# Altium integrated library WE-HCF SMD High Current Inductor.IntLib: 22 symbols
Pins are listed as number, name and electrical type; pins without a type are passive.

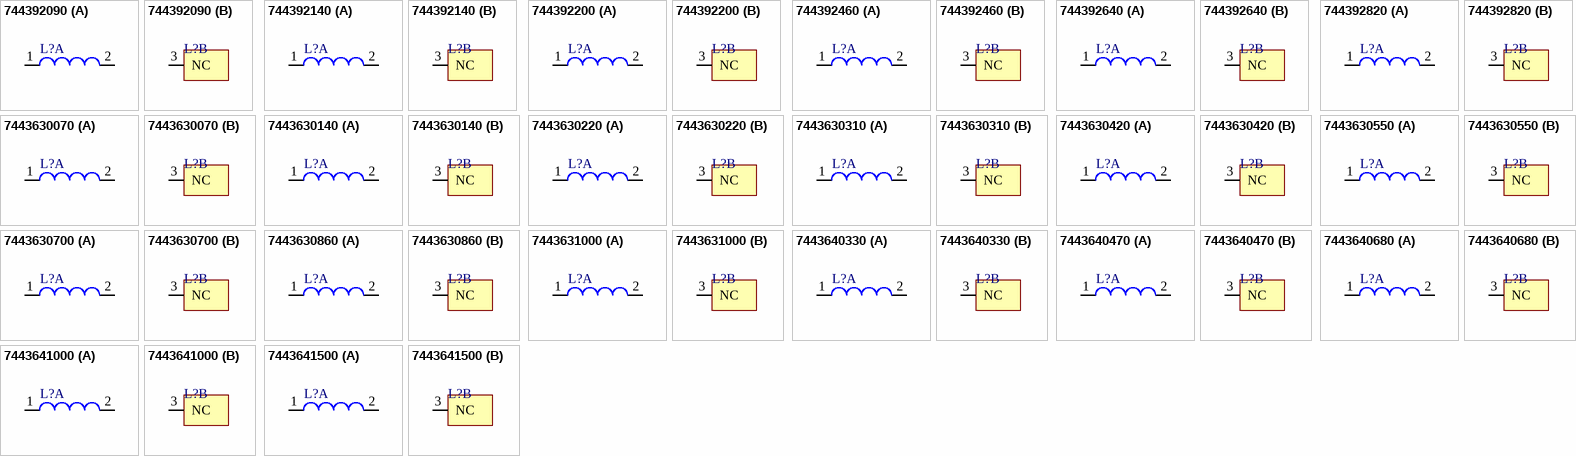
[diagram p0: symbols 744392090 to 7443641500]

## 744392090
designator L?
SMD Flat Wire Ferrite Inductor WE-HCF Hight Current, L=0.90 µH; PartNumber: 744392090; Inductance: 0.90 µH; PackageReference: WE-HCF 1253; ComponentLink1Description: Manufacturer URL; ComponentLink1URL: http://www.we-online.com
footprint WE-HCF 1253
part A pins: 1, 2
part B pins: 3 NC

## 744392140
designator L?
SMD Flat Wire Ferrite Inductor WE-HCF Hight Current, L=1.40 µH; PartNumber: 744392140; Inductance: 1.40 µH; PackageReference: WE-HCF 1253; ComponentLink1Description: Manufacturer URL; ComponentLink1URL: http://www.we-online.com
footprint WE-HCF 1253
part A pins: 1, 2
part B pins: 3 NC

## 744392200
designator L?
SMD Flat Wire Ferrite Inductor WE-HCF Hight Current, L=2.00 µH; PartNumber: 744392200; Inductance: 2.00 µH; PackageReference: WE-HCF 1253; ComponentLink1Description: Manufacturer URL; ComponentLink1URL: http://www.we-online.com
footprint WE-HCF 1253
part A pins: 1, 2
part B pins: 3 NC

## 744392460
designator L?
SMD Flat Wire Ferrite Inductor WE-HCF Hight Current, L=4.80 µH; PartNumber: 744392460; Inductance: 4.80 µH; PackageReference: WE-HCF 1253; ComponentLink1Description: Manufacturer URL; ComponentLink1URL: http://www.we-online.com
footprint WE-HCF 1253
part A pins: 1, 2
part B pins: 3 NC

## 744392640
designator L?
SMD Flat Wire Ferrite Inductor WE-HCF Hight Current, L=6.80 µH; PartNumber: 744392640; Inductance: 6.80 µH; PackageReference: WE-HCF 1253; ComponentLink1Description: Manufacturer URL; ComponentLink1URL: http://www.we-online.com
footprint WE-HCF 1253
part A pins: 1, 2
part B pins: 3 NC

## 744392820
designator L?
SMD Flat Wire Ferrite Inductor WE-HCF Hight Current, L=8.60 µH; PartNumber: 744392820; Inductance: 8.60 µH; PackageReference: WE-HCF 1253; ComponentLink1Description: Manufacturer URL; ComponentLink1URL: http://www.we-online.com
footprint WE-HCF 1253
part A pins: 1, 2
part B pins: 3 NC

## 7443630070
designator L?
SMD High Current Inductor WE-HCF, L=0.70 µH; PartNumber: 7443630070; Inductance: 0.70 µH; DatasheetVersion: ver 1, Jul-2009; PackageReference: WE-HCF-2013; PackageDescription: SMD Inductor, 3-Leads, Body 21.5 x 21.0 mm; ComponentLink1Description: Manufacturer URL; ComponentLink1URL: http://www.we-online.com; ComponentLink2Description: Datasheet; ComponentLink2URL: http://www.we-online.de/katalog/media/pdf/7443630070.pdf
footprint WE-HCF-2013 (SMD Inductor, 3-Leads, Body 21.5x21.0x14.0 mm)
part A pins: 1, 2
part B pins: 3 NC

## 7443630140
designator L?
SMD High Current Inductor WE-HCF, L=1.40 µH; PartNumber: 7443630140; Inductance: 1.40 µH; DatasheetVersion: ver 1, Jul-2009; PackageReference: WE-HCF-2013; PackageDescription: SMD Inductor, 3-Leads, Body 21.5 x 21.0 mm; ComponentLink1Description: Manufacturer URL; ComponentLink1URL: http://www.we-online.com; ComponentLink2Description: Datasheet; ComponentLink2URL: http://www.we-online.de/katalog/media/pdf/7443630140.pdf
footprint WE-HCF-2013 (SMD Inductor, 3-Leads, Body 21.5x21.0x14.0 mm)
part A pins: 1, 2
part B pins: 3 NC

## 7443630220
designator L?
SMD High Current Inductor WE-HCF, L=2.20 µH; PartNumber: 7443630220; Inductance: 2.20 µH; DatasheetVersion: ver 1, Jul-2009; PackageReference: WE-HCF-2013; PackageDescription: SMD Inductor, 3-Leads, Body 21.5 x 21.0 mm; ComponentLink1Description: Manufacturer URL; ComponentLink1URL: http://www.we-online.com; ComponentLink2Description: Datasheet; ComponentLink2URL: http://www.we-online.de/katalog/media/pdf/7443630220.pdf
footprint WE-HCF-2013 (SMD Inductor, 3-Leads, Body 21.5x21.0x14.0 mm)
part A pins: 1, 2
part B pins: 3 NC

## 7443630310
designator L?
SMD High Current Inductor WE-HCF, L=3.10 µH; PartNumber: 7443630310; Inductance: 3.10 µH; DatasheetVersion: ver 1, Jul-2009; PackageReference: WE-HCF-2013; PackageDescription: SMD Inductor, 3-Leads, Body 21.5 x 21.0 mm; ComponentLink1Description: Manufacturer URL; ComponentLink1URL: http://www.we-online.com; ComponentLink2Description: Datasheet; ComponentLink2URL: http://www.we-online.de/katalog/media/pdf/7443630310.pdf
footprint WE-HCF-2013 (SMD Inductor, 3-Leads, Body 21.5x21.0x14.0 mm)
part A pins: 1, 2
part B pins: 3 NC

## 7443630420
designator L?
SMD High Current Inductor WE-HCF, L=4.20 µH; PartNumber: 7443630420; Inductance: 4.20 µH; DatasheetVersion: ver 1, Jul-2009; PackageReference: WE-HCF-2013; PackageDescription: SMD Inductor, 3-Leads, Body 21.5 x 21.0 mm; ComponentLink1Description: Manufacturer URL; ComponentLink1URL: http://www.we-online.com; ComponentLink2Description: Datasheet; ComponentLink2URL: http://www.we-online.de/katalog/media/pdf/7443630420.pdf
footprint WE-HCF-2013 (SMD Inductor, 3-Leads, Body 21.5x21.0x14.0 mm)
part A pins: 1, 2
part B pins: 3 NC

## 7443630550
designator L?
SMD High Current Inductor WE-HCF, L=5.50 µH; PartNumber: 7443630550; Inductance: 5.50 µH; DatasheetVersion: ver 1, Jul-2009; PackageReference: WE-HCF-2013; PackageDescription: SMD Inductor, 3-Leads, Body 21.5 x 21.0 mm; ComponentLink1Description: Manufacturer URL; ComponentLink1URL: http://www.we-online.com; ComponentLink2Description: Datasheet; ComponentLink2URL: http://www.we-online.de/katalog/media/pdf/7443630550.pdf
footprint WE-HCF-2013 (SMD Inductor, 3-Leads, Body 21.5x21.0x14.0 mm)
part A pins: 1, 2
part B pins: 3 NC

## 7443630700
designator L?
SMD High Current Inductor WE-HCF, L=7.00 µH; PartNumber: 7443630700; Inductance: 7.00 µH; DatasheetVersion: ver 1, Jul-2009; PackageReference: WE-HCF-2013; PackageDescription: SMD Inductor, 3-Leads, Body 21.5 x 21.0 mm; ComponentLink1Description: Manufacturer URL; ComponentLink1URL: http://www.we-online.com; ComponentLink2Description: Datasheet; ComponentLink2URL: http://www.we-online.de/katalog/media/pdf/7443630700.pdf
footprint WE-HCF-2013 (SMD Inductor, 3-Leads, Body 21.5x21.0x14.0 mm)
part A pins: 1, 2
part B pins: 3 NC

## 7443630860
designator L?
SMD High Current Inductor WE-HCF, L=8.60 µH; PartNumber: 7443630860; Inductance: 8.60 µH; DatasheetVersion: ver 1, Jul-2009; PackageReference: WE-HCF-2013; PackageDescription: SMD Inductor, 3-Leads, Body 21.5 x 21.0 mm; ComponentLink1Description: Manufacturer URL; ComponentLink1URL: http://www.we-online.com; ComponentLink2Description: Datasheet; ComponentLink2URL: http://www.we-online.de/katalog/media/pdf/7443630860.pdf
footprint WE-HCF-2013 (SMD Inductor, 3-Leads, Body 21.5x21.0x14.0 mm)
part A pins: 1, 2
part B pins: 3 NC

## 7443631000
designator L?
SMD High Current Inductor WE-HCF, L=10.0 µH; PartNumber: 7443631000; Inductance: 10.0 µH; DatasheetVersion: ver 1, Jul-2009; PackageReference: WE-HCF-2013; PackageDescription: SMD Inductor, 3-Leads, Body 21.5 x 21.0 mm; ComponentLink1Description: Manufacturer URL; ComponentLink1URL: http://www.we-online.com; ComponentLink2Description: Datasheet; ComponentLink2URL: http://www.we-online.de/katalog/media/pdf/7443631000.pdf
footprint WE-HCF-2013 (SMD Inductor, 3-Leads, Body 21.5x21.0x14.0 mm)
part A pins: 1, 2
part B pins: 3 NC

## 7443640330
designator L?
SMD High Current Inductor WE-HCF, L=3.3 µH; PartNumber: 7443640330; Inductance: 3.3 µH; PackageReference: WE-HCF 2013; ComponentLink1Description: Manufacturer URL; ComponentLink1URL: http://www.we-online.com; ComponentLink2Description: Datasheet; ComponentLink2URL: http://katalog.we-online.de/kataloge/eisos/media/pdf/7443640330.pdf
footprint WE-HCF 2013 (SMD Inductor, 3-Leads, Body 21,8x21,5mm (max))
part A pins: 1, 2
part B pins: 3 NC

## 7443640470
designator L?
SMD High Current Inductor WE-HCF, L=4.7µH; PartNumber: 7443640470; Inductance: 4.7µH; PackageReference: WE-HCF 2818; ComponentLink1Description: Manufacturer URL; ComponentLink1URL: http://www.we-online.com; ComponentLink2Description: Datasheet; ComponentLink2URL: http://katalog.we-online.de/kataloge/eisos/media/pdf/7443640470.pdf
footprint WE-HCF 2818 (SMD Inductor, 3-Leads, Body 21,5x28mm (max))
part A pins: 1, 2
part B pins: 3 NC

## 7443640680
designator L?
SMD High Current Inductor WE-HCF, L=6.8µH; PartNumber: 7443640680; Inductance: 6.8µH; PackageReference: WE-HCF 2818; ComponentLink1Description: Manufacturer URL; ComponentLink1URL: http://www.we-online.com; ComponentLink2Description: Datasheet; ComponentLink2URL: http://katalog.we-online.de/kataloge/eisos/media/pdf/7443640680.pdf
footprint WE-HCF 2818 (SMD Inductor, 3-Leads, Body 21,5x28mm (max))
part A pins: 1, 2
part B pins: 3 NC

## 7443641000
designator L?
SMD High Current Inductor WE-HCF, L=10µH; PartNumber: 7443641000; Inductance: 10µH; PackageReference: WE-HCF 2818; ComponentLink1Description: Manufacturer URL; ComponentLink1URL: http://www.we-online.com; ComponentLink2Description: Datasheet; ComponentLink2URL: http://katalog.we-online.de/kataloge/eisos/media/pdf/7443641000.pdf
footprint WE-HCF 2818 (SMD Inductor, 3-Leads, Body 21,5x28mm (max))
part A pins: 1, 2
part B pins: 3 NC

## 7443641500
designator L?
SMD High Current Inductor WE-HCF, L=15µH; PartNumber: 7443641500; Inductance: 15µH; PackageReference: WE-HCF 2818; ComponentLink1Description: Manufacturer URL; ComponentLink1URL: http://www.we-online.com; ComponentLink2Description: Datasheet; ComponentLink2URL: http://katalog.we-online.de/kataloge/eisos/media/pdf/7443641500.pdf
footprint WE-HCF 2818 (SMD Inductor, 3-Leads, Body 21,5x28mm (max))
part A pins: 1, 2
part B pins: 3 NC

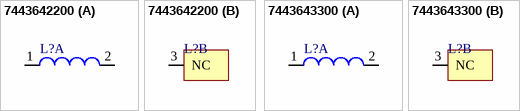
[diagram p1: symbols 7443642200 to 7443643300]

## 7443642200
designator L?
SMD High Current Inductor WE-HCF, L=22µH; PartNumber: 7443642200; Inductance: 22µH; PackageReference: WE-HCF 2818; ComponentLink1Description: Manufacturer URL; ComponentLink1URL: http://www.we-online.com; ComponentLink2Description: Datasheet; ComponentLink2URL: http://katalog.we-online.de/kataloge/eisos/media/pdf/7443642200.pdf
footprint WE-HCF 2818 (SMD Inductor, 3-Leads, Body 21,5x28mm (max))
part A pins: 1, 2
part B pins: 3 NC

## 7443643300
designator L?
SMD High Current Inductor WE-HCF, L=33µH; PartNumber: 7443643300; Inductance: 33µH; PackageReference: WE-HCF 2818; ComponentLink1Description: Manufacturer URL; ComponentLink1URL: http://www.we-online.com; ComponentLink2Description: Datasheet; ComponentLink2URL: http://katalog.we-online.de/kataloge/eisos/media/pdf/7443643300.pdf
footprint WE-HCF 2818 (SMD Inductor, 3-Leads, Body 21,5x28mm (max))
part A pins: 1, 2
part B pins: 3 NC